# Altium footprint library WA-SMST.PcbLib: 54 footprints (part 2 of 4)
Each footprint in its own frame and in the unit in brackets; x right, y up, seen from the top. Pads: shape width x height; smd on the part's side, far side on the other; paste and mask are expansions set on the pad; w line width, h text height; cw(c..) or ccw(c..) is an arc to the next point about the centre after c.
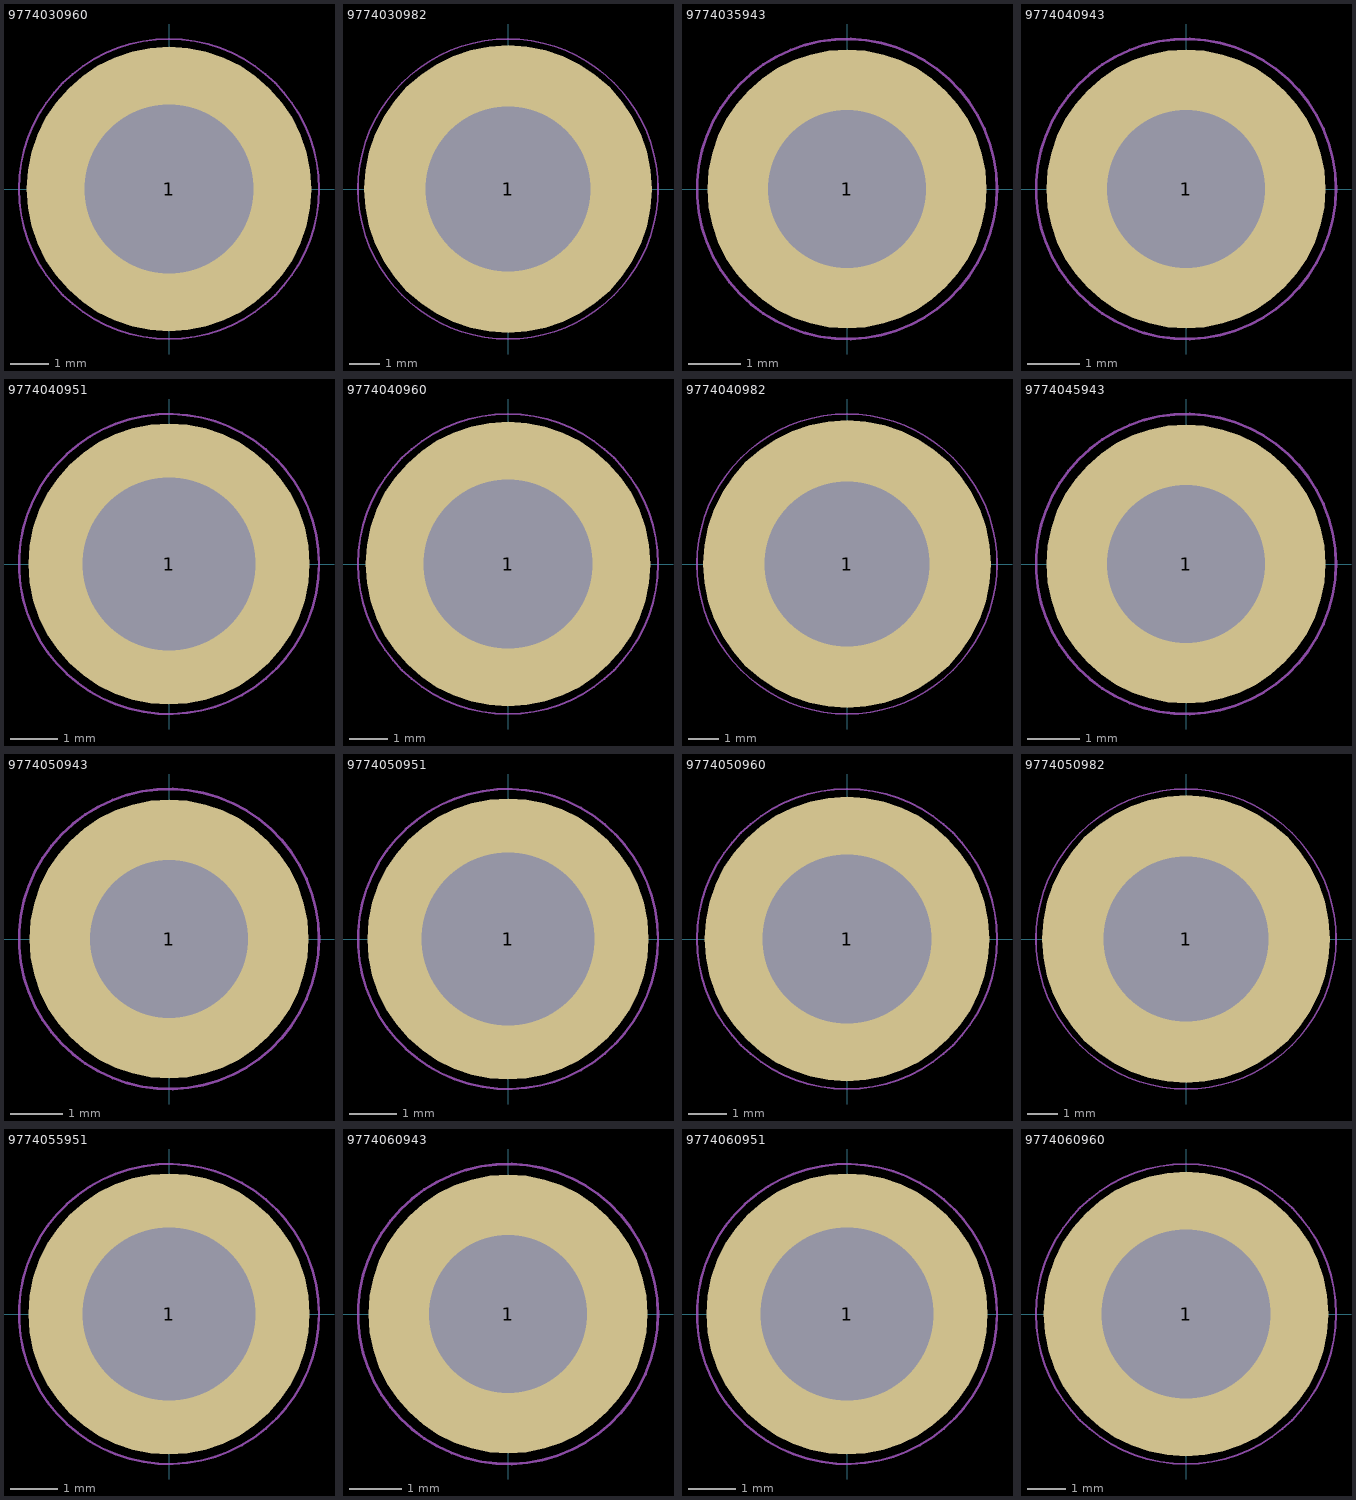
[diagram p1: the footprints below, top view; thin cyan lines are the x and y axes]

## 9774030960 [mm] "SMT Steel Spacer Internal hole diameter 3.3mm non stop, height 3mm"
height 3
pads (1):
  round 7.4 / inner round 0 / far side round 0 hole 4.4 unplated: 1(0,0)
Top Paste:
  region: 0.4,3.613 0.4,2.204 0.566,2.167 0.886,2.057 1.186,1.9 1.46,1.699 1.699,1.46 1.9,1.186 2.057,0.886 2.167,0.566 2.204,0.4 3.613,0.4 3.59,0.603 3.5,1.003 3.365,1.389 3.188,1.759 2.97,2.105 2.715,2.426 2.426,2.715 2.105,2.97 1.759,3.188 1.389,3.365 1.003,3.5 0.603,3.59
  region: 3.613,-0.4 2.204,-0.4 2.167,-0.566 2.057,-0.886 1.9,-1.186 1.699,-1.46 1.46,-1.699 1.186,-1.9 0.886,-2.057 0.566,-2.167 0.4,-2.204 0.4,-3.613 0.603,-3.59 1.003,-3.5 1.389,-3.365 1.759,-3.188 2.105,-2.97 2.426,-2.715 2.715,-2.426 2.97,-2.105 3.188,-1.759 3.365,-1.389 3.5,-1.003 3.59,-0.603
  region: -0.4,-3.613 -0.4,-2.204 -0.566,-2.167 -0.886,-2.057 -1.186,-1.9 -1.46,-1.699 -1.699,-1.46 -1.9,-1.186 -2.057,-0.886 -2.167,-0.566 -2.204,-0.4 -3.613,-0.4 -3.59,-0.603 -3.5,-1.003 -3.365,-1.389 -3.188,-1.759 -2.97,-2.105 -2.715,-2.426 -2.426,-2.715 -2.105,-2.97 -1.759,-3.188 -1.389,-3.365 -1.003,-3.5 -0.603,-3.59
  region: -3.613,0.4 -2.204,0.4 -2.167,0.566 -2.057,0.886 -1.9,1.186 -1.699,1.46 -1.46,1.699 -1.186,1.9 -0.886,2.057 -0.566,2.167 -0.4,2.204 -0.4,3.613 -0.603,3.59 -1.003,3.5 -1.389,3.365 -1.759,3.188 -2.105,2.97 -2.426,2.715 -2.715,2.426 -2.97,2.105 -3.188,1.759 -3.365,1.389 -3.5,1.003 -3.59,0.603
Top Designator:
  text ".Designator" at -7.498,-0.5 h1.5
Top Component Outline:
  circle w0.1: c0,0 r3
Top 3D Body:
  circle w0.1: c0,0 r3
Top Courtyard:
  circle w0.05: c0,0 r3.9
  lines w0.05: -0.5,0 0.5,0 ; 0,-0.5 0,0.5
3D body "9774030960.stp": height 3, standoff -1.4, extent -3,-3 3,3

## 9774030982 [mm] "SMT Steel Spacer Internal hole diameter 4.5mm non stop, height 3mm"
height 3
pads (1):
  round 9.4 / inner round 0 / far side round 0 hole 5.4 unplated: 1(0,0)
Top Paste:
  region: 0.4,4.618 0.669,4.594 1.199,4.485 1.712,4.316 2.202,4.087 2.662,3.804 3.086,3.469 3.469,3.086 3.804,2.662 4.087,2.202 4.316,1.712 4.485,1.199 4.594,0.669 4.618,0.4 2.711,0.4 2.67,0.615 2.538,1.032 2.342,1.422 2.086,1.777 1.777,2.086 1.422,2.342 1.032,2.538 0.615,2.67 0.4,2.711
  region: 4.618,-0.4 4.594,-0.669 4.485,-1.199 4.316,-1.712 4.087,-2.202 3.804,-2.662 3.469,-3.086 3.086,-3.469 2.662,-3.804 2.202,-4.087 1.712,-4.316 1.199,-4.485 0.669,-4.594 0.4,-4.618 0.4,-2.711 0.615,-2.67 1.032,-2.538 1.422,-2.342 1.777,-2.086 2.086,-1.777 2.342,-1.422 2.538,-1.032 2.67,-0.615 2.711,-0.4
  region: -0.4,-4.618 -0.669,-4.594 -1.199,-4.485 -1.712,-4.316 -2.202,-4.087 -2.662,-3.804 -3.086,-3.469 -3.469,-3.086 -3.804,-2.662 -4.087,-2.202 -4.316,-1.712 -4.485,-1.199 -4.594,-0.669 -4.618,-0.4 -2.711,-0.4 -2.67,-0.615 -2.538,-1.032 -2.342,-1.422 -2.086,-1.777 -1.777,-2.086 -1.422,-2.342 -1.032,-2.538 -0.615,-2.67 -0.4,-2.711
  region: -4.618,0.4 -4.594,0.669 -4.485,1.199 -4.316,1.712 -4.087,2.202 -3.804,2.662 -3.469,3.086 -3.086,3.469 -2.662,3.804 -2.202,4.087 -1.712,4.316 -1.199,4.485 -0.669,4.594 -0.4,4.618 -0.4,2.711 -0.615,2.67 -1.032,2.538 -1.422,2.342 -1.777,2.086 -2.086,1.777 -2.342,1.422 -2.538,1.032 -2.67,0.615 -2.711,0.4
Top Designator:
  text ".Designator" at -7.498,-0.5 h1.5
Top Component Outline:
  circle w0.1: c0,0 r4.1
Top 3D Body:
  circle w0.1: c0,0 r4.1
Top Courtyard:
  circle w0.05: c0,0 r4.9
  lines w0.05: -0.5,0 0.5,0 ; 0,-0.5 0,0.5
3D body "9774030982.stp": height 3, standoff -1.4, extent -4.1,-4.1 4.1,4.1

## 9774035943 [mm] "SMT Steel Spacer Internal hole diameter 2.25mm non stop, height 3.5mm"
height 3.5
pads (1):
  round 5.3 / inner round 0 / far side round 0 hole 3 unplated: 1(0,0)
Top Paste:
  region: 0.3,2.542 0.513,2.517 0.924,2.397 1.31,2.21 1.659,1.962 1.962,1.659 2.21,1.309 2.397,0.924 2.517,0.513 2.542,0.3 1.521,0.3 1.494,0.411 1.418,0.627 1.31,0.828 1.174,1.012 1.012,1.174 0.829,1.31 0.627,1.418 0.411,1.494 0.3,1.521
  region: 2.542,-0.3 2.517,-0.513 2.397,-0.924 2.21,-1.31 1.962,-1.659 1.659,-1.962 1.309,-2.21 0.924,-2.397 0.513,-2.517 0.3,-2.542 0.3,-1.521 0.411,-1.494 0.627,-1.418 0.828,-1.31 1.012,-1.174 1.174,-1.012 1.31,-0.829 1.418,-0.627 1.494,-0.411 1.521,-0.3
  region: -0.3,-2.542 -0.513,-2.517 -0.924,-2.397 -1.31,-2.21 -1.659,-1.962 -1.962,-1.659 -2.21,-1.309 -2.397,-0.924 -2.517,-0.513 -2.542,-0.3 -1.521,-0.3 -1.494,-0.411 -1.418,-0.627 -1.31,-0.828 -1.174,-1.012 -1.012,-1.174 -0.829,-1.31 -0.627,-1.418 -0.411,-1.494 -0.3,-1.521
  region: -2.542,0.3 -2.517,0.513 -2.397,0.924 -2.21,1.31 -1.962,1.659 -1.659,1.962 -1.309,2.21 -0.924,2.397 -0.513,2.517 -0.3,2.542 -0.3,1.521 -0.411,1.494 -0.627,1.418 -0.828,1.31 -1.012,1.174 -1.174,1.012 -1.31,0.829 -1.418,0.627 -1.494,0.411 -1.521,0.3
Top Designator:
  text ".Designator" at -7.498,-0.5 h1.5
Top Component Outline:
  circle w0.1: c0,0 r2.175
Top 3D Body:
  circle w0.1: c0,0 r2.175
Top Courtyard:
  circle w0.05: c0,0 r2.85
  lines w0.05: -0.5,0 0.5,0 ; 0,-0.5 0,0.5
3D body "9774035943.stp": height 3.5, standoff -1.4, extent -2.175,-2.172 2.175,2.172

## 9774040943 [mm] "SMT Steel Spacer Internal hole diameter 2.25mm non stop, height 4mm"
height 4
pads (1):
  round 5.3 / inner round 0 / far side round 0 hole 3 unplated: 1(0,0)
Top Paste:
  region: 0.3,2.542 0.513,2.517 0.924,2.397 1.31,2.21 1.659,1.962 1.962,1.659 2.21,1.309 2.397,0.924 2.517,0.513 2.542,0.3 1.521,0.3 1.494,0.411 1.418,0.627 1.31,0.828 1.174,1.012 1.012,1.174 0.829,1.31 0.627,1.418 0.411,1.494 0.3,1.521
  region: 2.542,-0.3 2.517,-0.513 2.397,-0.924 2.21,-1.31 1.962,-1.659 1.659,-1.962 1.309,-2.21 0.924,-2.397 0.513,-2.517 0.3,-2.542 0.3,-1.521 0.411,-1.494 0.627,-1.418 0.828,-1.31 1.012,-1.174 1.174,-1.012 1.31,-0.829 1.418,-0.627 1.494,-0.411 1.521,-0.3
  region: -0.3,-2.542 -0.513,-2.517 -0.924,-2.397 -1.31,-2.21 -1.659,-1.962 -1.962,-1.659 -2.21,-1.309 -2.397,-0.924 -2.517,-0.513 -2.542,-0.3 -1.521,-0.3 -1.494,-0.411 -1.418,-0.627 -1.31,-0.828 -1.174,-1.012 -1.012,-1.174 -0.829,-1.31 -0.627,-1.418 -0.411,-1.494 -0.3,-1.521
  region: -2.542,0.3 -2.517,0.513 -2.397,0.924 -2.21,1.31 -1.962,1.659 -1.659,1.962 -1.309,2.21 -0.924,2.397 -0.513,2.517 -0.3,2.542 -0.3,1.521 -0.411,1.494 -0.627,1.418 -0.828,1.31 -1.012,1.174 -1.174,1.012 -1.31,0.829 -1.418,0.627 -1.494,0.411 -1.521,0.3
Top Designator:
  text ".Designator" at -7.498,-0.5 h1.5
Top Component Outline:
  circle w0.1: c0,0 r2.175
Top 3D Body:
  circle w0.1: c0,0 r2.175
Top Courtyard:
  circle w0.05: c0,0 r2.85
  lines w0.05: -0.5,0 0.5,0 ; 0,-0.5 0,0.5
3D body "9774040943.stp": height 4, standoff -1.4, extent -2.175,-2.172 2.175,2.172

## 9774040951 [mm] "SMT Steel Spacer Internal hole diameter 2.7mm non stop, height 4mm"
height 4
pads (1):
  round 6 / inner round 0 / far side round 0 hole 3.7 unplated: 1(0,0)
Top Paste:
  region: 0.325,2.902 0.325,1.872 0.467,1.842 0.743,1.749 1.002,1.614 1.237,1.442 1.442,1.237 1.614,1.002 1.749,0.743 1.842,0.467 1.872,0.325 2.902,0.325 2.874,0.57 2.738,1.044 2.524,1.488 2.239,1.89 1.89,2.239 1.488,2.524 1.044,2.738 0.57,2.874
  region: 2.902,-0.325 1.872,-0.325 1.842,-0.467 1.749,-0.743 1.614,-1.002 1.442,-1.237 1.237,-1.442 1.002,-1.614 0.743,-1.749 0.467,-1.842 0.325,-1.872 0.325,-2.902 0.57,-2.874 1.044,-2.738 1.488,-2.524 1.89,-2.239 2.239,-1.89 2.524,-1.488 2.738,-1.044 2.874,-0.57
  region: -0.325,-2.902 -0.325,-1.872 -0.467,-1.842 -0.743,-1.749 -1.002,-1.614 -1.237,-1.442 -1.442,-1.237 -1.614,-1.002 -1.749,-0.743 -1.842,-0.467 -1.872,-0.325 -2.902,-0.325 -2.874,-0.57 -2.738,-1.044 -2.524,-1.488 -2.239,-1.89 -1.89,-2.239 -1.488,-2.524 -1.044,-2.738 -0.57,-2.874
  region: -2.902,0.325 -1.872,0.325 -1.842,0.467 -1.749,0.743 -1.614,1.002 -1.442,1.237 -1.237,1.442 -1.002,1.614 -0.743,1.749 -0.467,1.842 -0.325,1.872 -0.325,2.902 -0.57,2.874 -1.044,2.738 -1.488,2.524 -1.89,2.239 -2.239,1.89 -2.524,1.488 -2.738,1.044 -2.874,0.57
Top Designator:
  text ".Designator" at -7.498,-0.5 h1.5
Top Component Outline:
  circle w0.1: c0,0 r2.55
Top 3D Body:
  circle w0.1: c0,0 r2.55
Top Courtyard:
  circle w0.05: c0,0 r3.2
  lines w0.05: -0.5,0 0.5,0 ; 0,-0.5 0,0.5
3D body "9774040951.stp": height 4, standoff -1.4, extent -2.55,-2.547 2.55,2.547

## 9774040960 [mm] "SMT Steel Spacer Internal hole diameter 3.3mm non stop, height 4mm"
height 4
pads (1):
  round 7.4 / inner round 0 / far side round 0 hole 4.4 unplated: 1(0,0)
Top Paste:
  region: -3.613,0.4 -2.204,0.4 -2.167,0.566 -2.057,0.886 -1.9,1.186 -1.699,1.46 -1.46,1.699 -1.186,1.9 -0.886,2.057 -0.566,2.167 -0.4,2.204 -0.4,3.613 -0.603,3.59 -1.003,3.5 -1.389,3.365 -1.759,3.188 -2.105,2.97 -2.426,2.715 -2.715,2.426 -2.97,2.105 -3.188,1.759 -3.365,1.389 -3.5,1.003 -3.59,0.603
  region: -0.4,-3.613 -0.4,-2.204 -0.566,-2.167 -0.886,-2.057 -1.186,-1.9 -1.46,-1.699 -1.699,-1.46 -1.9,-1.186 -2.057,-0.886 -2.167,-0.566 -2.204,-0.4 -3.613,-0.4 -3.59,-0.603 -3.5,-1.003 -3.365,-1.389 -3.188,-1.759 -2.97,-2.105 -2.715,-2.426 -2.426,-2.715 -2.105,-2.97 -1.759,-3.188 -1.389,-3.365 -1.003,-3.5 -0.603,-3.59
  region: 3.613,-0.4 2.204,-0.4 2.167,-0.566 2.057,-0.886 1.9,-1.186 1.699,-1.46 1.46,-1.699 1.186,-1.9 0.886,-2.057 0.566,-2.167 0.4,-2.204 0.4,-3.613 0.603,-3.59 1.003,-3.5 1.389,-3.365 1.759,-3.188 2.105,-2.97 2.426,-2.715 2.715,-2.426 2.97,-2.105 3.188,-1.759 3.365,-1.389 3.5,-1.003 3.59,-0.603
  region: 0.4,3.613 0.4,2.204 0.566,2.167 0.886,2.057 1.186,1.9 1.46,1.699 1.699,1.46 1.9,1.186 2.057,0.886 2.167,0.566 2.204,0.4 3.613,0.4 3.59,0.603 3.5,1.003 3.365,1.389 3.188,1.759 2.97,2.105 2.715,2.426 2.426,2.715 2.105,2.97 1.759,3.188 1.389,3.365 1.003,3.5 0.603,3.59
Top Designator:
  text ".Designator" at -7.498,-0.5 h1.5
Top Component Outline:
  circle w0.1: c0,0 r3
Top 3D Body:
  circle w0.1: c0,0 r3
Top Courtyard:
  circle w0.05: c0,0 r3.9
  lines w0.05: -0.5,0 0.5,0 ; 0,-0.5 0,0.5
3D body "9774040960.stp": height 4, standoff -1.4, extent -3,-3 3,3

## 9774040982 [mm] "SMT Steel Spacer Internal hole diameter 4.5mm non stop, height 4mm"
height 4
pads (1):
  round 9.4 / inner round 0 / far side round 0 hole 5.4 unplated: 1(0,0)
Top Paste:
  region: 0.4,4.618 0.669,4.594 1.199,4.485 1.712,4.316 2.202,4.087 2.662,3.804 3.086,3.469 3.469,3.086 3.804,2.662 4.087,2.202 4.316,1.712 4.485,1.199 4.594,0.669 4.618,0.4 2.711,0.4 2.67,0.615 2.538,1.032 2.342,1.422 2.086,1.777 1.777,2.086 1.422,2.342 1.032,2.538 0.615,2.67 0.4,2.711
  region: 4.618,-0.4 4.594,-0.669 4.485,-1.199 4.316,-1.712 4.087,-2.202 3.804,-2.662 3.469,-3.086 3.086,-3.469 2.662,-3.804 2.202,-4.087 1.712,-4.316 1.199,-4.485 0.669,-4.594 0.4,-4.618 0.4,-2.711 0.615,-2.67 1.032,-2.538 1.422,-2.342 1.777,-2.086 2.086,-1.777 2.342,-1.422 2.538,-1.032 2.67,-0.615 2.711,-0.4
  region: -0.4,-4.618 -0.669,-4.594 -1.199,-4.485 -1.712,-4.316 -2.202,-4.087 -2.662,-3.804 -3.086,-3.469 -3.469,-3.086 -3.804,-2.662 -4.087,-2.202 -4.316,-1.712 -4.485,-1.199 -4.594,-0.669 -4.618,-0.4 -2.711,-0.4 -2.67,-0.615 -2.538,-1.032 -2.342,-1.422 -2.086,-1.777 -1.777,-2.086 -1.422,-2.342 -1.032,-2.538 -0.615,-2.67 -0.4,-2.711
  region: -4.618,0.4 -4.594,0.669 -4.485,1.199 -4.316,1.712 -4.087,2.202 -3.804,2.662 -3.469,3.086 -3.086,3.469 -2.662,3.804 -2.202,4.087 -1.712,4.316 -1.199,4.485 -0.669,4.594 -0.4,4.618 -0.4,2.711 -0.615,2.67 -1.032,2.538 -1.422,2.342 -1.777,2.086 -2.086,1.777 -2.342,1.422 -2.538,1.032 -2.67,0.615 -2.711,0.4
Top Designator:
  text ".Designator" at -7.498,-0.5 h1.5
Top Component Outline:
  circle w0.1: c0,0 r4.1
Top 3D Body:
  circle w0.1: c0,0 r4.1
Top Courtyard:
  circle w0.05: c0,0 r4.9
  lines w0.05: -0.5,0 0.5,0 ; 0,-0.5 0,0.5
3D body "9774040982.stp": height 4, standoff -1.4, extent -4.1,-4.1 4.1,4.1

## 9774045943 [mm] "SMT Steel Spacer Internal hole diameter 2.25mm non stop, height 4.5mm"
height 4.5
pads (1):
  round 5.3 / inner round 0 / far side round 0 hole 3 unplated: 1(0,0)
Top Paste:
  region: -2.542,0.3 -2.517,0.513 -2.397,0.924 -2.21,1.31 -1.962,1.659 -1.659,1.962 -1.309,2.21 -0.924,2.397 -0.513,2.517 -0.3,2.542 -0.3,1.521 -0.411,1.494 -0.627,1.418 -0.828,1.31 -1.012,1.174 -1.174,1.012 -1.31,0.829 -1.418,0.627 -1.494,0.411 -1.521,0.3
  region: -0.3,-2.542 -0.513,-2.517 -0.924,-2.397 -1.31,-2.21 -1.659,-1.962 -1.962,-1.659 -2.21,-1.309 -2.397,-0.924 -2.517,-0.513 -2.542,-0.3 -1.521,-0.3 -1.494,-0.411 -1.418,-0.627 -1.31,-0.828 -1.174,-1.012 -1.012,-1.174 -0.829,-1.31 -0.627,-1.418 -0.411,-1.494 -0.3,-1.521
  region: 2.542,-0.3 2.517,-0.513 2.397,-0.924 2.21,-1.31 1.962,-1.659 1.659,-1.962 1.309,-2.21 0.924,-2.397 0.513,-2.517 0.3,-2.542 0.3,-1.521 0.411,-1.494 0.627,-1.418 0.828,-1.31 1.012,-1.174 1.174,-1.012 1.31,-0.829 1.418,-0.627 1.494,-0.411 1.521,-0.3
  region: 0.3,2.542 0.513,2.517 0.924,2.397 1.31,2.21 1.659,1.962 1.962,1.659 2.21,1.309 2.397,0.924 2.517,0.513 2.542,0.3 1.521,0.3 1.494,0.411 1.418,0.627 1.31,0.828 1.174,1.012 1.012,1.174 0.829,1.31 0.627,1.418 0.411,1.494 0.3,1.521
Top Designator:
  text ".Designator" at -7.498,-0.5 h1.5
Top Component Outline:
  circle w0.1: c0,0 r2.175
Top 3D Body:
  circle w0.1: c0,0 r2.175
Top Courtyard:
  circle w0.05: c0,0 r2.85
  lines w0.05: -0.5,0 0.5,0 ; 0,-0.5 0,0.5
3D body "9774045943.stp": height 4.5, standoff -1.4, extent -2.175,-2.172 2.175,2.172

## 9774050943 [mm] "SMT Steel Spacer Internal hole diameter 2.25mm non stop, height 5mm"
height 5
pads (1):
  round 5.3 / inner round 0 / far side round 0 hole 3 unplated: 1(0,0)
Top Paste:
  region: 0.3,2.542 0.513,2.517 0.924,2.397 1.31,2.21 1.659,1.962 1.962,1.659 2.21,1.309 2.397,0.924 2.517,0.513 2.542,0.3 1.521,0.3 1.494,0.411 1.418,0.627 1.31,0.828 1.174,1.012 1.012,1.174 0.829,1.31 0.627,1.418 0.411,1.494 0.3,1.521
  region: 2.542,-0.3 2.517,-0.513 2.397,-0.924 2.21,-1.31 1.962,-1.659 1.659,-1.962 1.309,-2.21 0.924,-2.397 0.513,-2.517 0.3,-2.542 0.3,-1.521 0.411,-1.494 0.627,-1.418 0.828,-1.31 1.012,-1.174 1.174,-1.012 1.31,-0.829 1.418,-0.627 1.494,-0.411 1.521,-0.3
  region: -0.3,-2.542 -0.513,-2.517 -0.924,-2.397 -1.31,-2.21 -1.659,-1.962 -1.962,-1.659 -2.21,-1.309 -2.397,-0.924 -2.517,-0.513 -2.542,-0.3 -1.521,-0.3 -1.494,-0.411 -1.418,-0.627 -1.31,-0.828 -1.174,-1.012 -1.012,-1.174 -0.829,-1.31 -0.627,-1.418 -0.411,-1.494 -0.3,-1.521
  region: -2.542,0.3 -2.517,0.513 -2.397,0.924 -2.21,1.31 -1.962,1.659 -1.659,1.962 -1.309,2.21 -0.924,2.397 -0.513,2.517 -0.3,2.542 -0.3,1.521 -0.411,1.494 -0.627,1.418 -0.828,1.31 -1.012,1.174 -1.174,1.012 -1.31,0.829 -1.418,0.627 -1.494,0.411 -1.521,0.3
Top Designator:
  text ".Designator" at -7.498,-0.5 h1.5
Top Component Outline:
  circle w0.1: c0,0 r2.175
Top 3D Body:
  circle w0.1: c0,0 r2.175
Top Courtyard:
  circle w0.05: c0,0 r2.85
  lines w0.05: -0.5,0 0.5,0 ; 0,-0.5 0,0.5
3D body "9774050943.stp": height 5, standoff -1.4, extent -2.175,-2.172 2.175,2.172

## 9774050951 [mm] "SMT Steel Spacer Internal hole diameter 2.7mm non stop, height 5mm"
height 5
pads (1):
  round 6 / inner round 0 / far side round 0 hole 3.7 unplated: 1(0,0)
Top Paste:
  region: 0.325,2.902 0.325,1.872 0.467,1.842 0.743,1.749 1.002,1.614 1.237,1.442 1.442,1.237 1.614,1.002 1.749,0.743 1.842,0.467 1.872,0.325 2.902,0.325 2.874,0.57 2.738,1.044 2.524,1.488 2.239,1.89 1.89,2.239 1.488,2.524 1.044,2.738 0.57,2.874
  region: 2.902,-0.325 1.872,-0.325 1.842,-0.467 1.749,-0.743 1.614,-1.002 1.442,-1.237 1.237,-1.442 1.002,-1.614 0.743,-1.749 0.467,-1.842 0.325,-1.872 0.325,-2.902 0.57,-2.874 1.044,-2.738 1.488,-2.524 1.89,-2.239 2.239,-1.89 2.524,-1.488 2.738,-1.044 2.874,-0.57
  region: -0.325,-2.902 -0.325,-1.872 -0.467,-1.842 -0.743,-1.749 -1.002,-1.614 -1.237,-1.442 -1.442,-1.237 -1.614,-1.002 -1.749,-0.743 -1.842,-0.467 -1.872,-0.325 -2.902,-0.325 -2.874,-0.57 -2.738,-1.044 -2.524,-1.488 -2.239,-1.89 -1.89,-2.239 -1.488,-2.524 -1.044,-2.738 -0.57,-2.874
  region: -2.902,0.325 -1.872,0.325 -1.842,0.467 -1.749,0.743 -1.614,1.002 -1.442,1.237 -1.237,1.442 -1.002,1.614 -0.743,1.749 -0.467,1.842 -0.325,1.872 -0.325,2.902 -0.57,2.874 -1.044,2.738 -1.488,2.524 -1.89,2.239 -2.239,1.89 -2.524,1.488 -2.738,1.044 -2.874,0.57
Top Designator:
  text ".Designator" at -7.498,-0.5 h1.5
Top Component Outline:
  circle w0.1: c0,0 r2.55
Top 3D Body:
  circle w0.1: c0,0 r2.55
Top Courtyard:
  circle w0.05: c0,0 r3.2
  lines w0.05: -0.5,0 0.5,0 ; 0,-0.5 0,0.5
3D body "9774050951.stp": height 5, standoff -1.4, extent -2.55,-2.547 2.55,2.547

## 9774050960 [mm] "SMT Steel Spacer Internal hole diameter 3.3mm non stop, height 5mm"
height 5
pads (1):
  round 7.4 / inner round 0 / far side round 0 hole 4.4 unplated: 1(0,0)
Top Paste:
  region: -3.613,0.4 -2.204,0.4 -2.167,0.566 -2.057,0.886 -1.9,1.186 -1.699,1.46 -1.46,1.699 -1.186,1.9 -0.886,2.057 -0.566,2.167 -0.4,2.204 -0.4,3.613 -0.603,3.59 -1.003,3.5 -1.389,3.365 -1.759,3.188 -2.105,2.97 -2.426,2.715 -2.715,2.426 -2.97,2.105 -3.188,1.759 -3.365,1.389 -3.5,1.003 -3.59,0.603
  region: -0.4,-3.613 -0.4,-2.204 -0.566,-2.167 -0.886,-2.057 -1.186,-1.9 -1.46,-1.699 -1.699,-1.46 -1.9,-1.186 -2.057,-0.886 -2.167,-0.566 -2.204,-0.4 -3.613,-0.4 -3.59,-0.603 -3.5,-1.003 -3.365,-1.389 -3.188,-1.759 -2.97,-2.105 -2.715,-2.426 -2.426,-2.715 -2.105,-2.97 -1.759,-3.188 -1.389,-3.365 -1.003,-3.5 -0.603,-3.59
  region: 3.613,-0.4 2.204,-0.4 2.167,-0.566 2.057,-0.886 1.9,-1.186 1.699,-1.46 1.46,-1.699 1.186,-1.9 0.886,-2.057 0.566,-2.167 0.4,-2.204 0.4,-3.613 0.603,-3.59 1.003,-3.5 1.389,-3.365 1.759,-3.188 2.105,-2.97 2.426,-2.715 2.715,-2.426 2.97,-2.105 3.188,-1.759 3.365,-1.389 3.5,-1.003 3.59,-0.603
  region: 0.4,3.613 0.4,2.204 0.566,2.167 0.886,2.057 1.186,1.9 1.46,1.699 1.699,1.46 1.9,1.186 2.057,0.886 2.167,0.566 2.204,0.4 3.613,0.4 3.59,0.603 3.5,1.003 3.365,1.389 3.188,1.759 2.97,2.105 2.715,2.426 2.426,2.715 2.105,2.97 1.759,3.188 1.389,3.365 1.003,3.5 0.603,3.59
Top Designator:
  text ".Designator" at -7.498,-0.5 h1.5
Top Component Outline:
  circle w0.1: c0,0 r3
Top 3D Body:
  circle w0.1: c0,0 r3
Top Courtyard:
  circle w0.05: c0,0 r3.9
  lines w0.05: -0.5,0 0.5,0 ; 0,-0.5 0,0.5
3D body "9774050960.stp": height 5, standoff -1.4, extent -3,-3 3,3

## 9774050982 [mm] "SMT Steel Spacer Internal hole diameter 4.5mm non stop, height 5mm"
height 5
pads (1):
  round 9.4 / inner round 0 / far side round 0 hole 5.4 unplated: 1(0,0)
Top Paste:
  region: -4.618,0.4 -4.594,0.669 -4.485,1.199 -4.316,1.712 -4.087,2.202 -3.804,2.662 -3.469,3.086 -3.086,3.469 -2.662,3.804 -2.202,4.087 -1.712,4.316 -1.199,4.485 -0.669,4.594 -0.4,4.618 -0.4,2.711 -0.615,2.67 -1.032,2.538 -1.422,2.342 -1.777,2.086 -2.086,1.777 -2.342,1.422 -2.538,1.032 -2.67,0.615 -2.711,0.4
  region: -0.4,-4.618 -0.669,-4.594 -1.199,-4.485 -1.712,-4.316 -2.202,-4.087 -2.662,-3.804 -3.086,-3.469 -3.469,-3.086 -3.804,-2.662 -4.087,-2.202 -4.316,-1.712 -4.485,-1.199 -4.594,-0.669 -4.618,-0.4 -2.711,-0.4 -2.67,-0.615 -2.538,-1.032 -2.342,-1.422 -2.086,-1.777 -1.777,-2.086 -1.422,-2.342 -1.032,-2.538 -0.615,-2.67 -0.4,-2.711
  region: 4.618,-0.4 4.594,-0.669 4.485,-1.199 4.316,-1.712 4.087,-2.202 3.804,-2.662 3.469,-3.086 3.086,-3.469 2.662,-3.804 2.202,-4.087 1.712,-4.316 1.199,-4.485 0.669,-4.594 0.4,-4.618 0.4,-2.711 0.615,-2.67 1.032,-2.538 1.422,-2.342 1.777,-2.086 2.086,-1.777 2.342,-1.422 2.538,-1.032 2.67,-0.615 2.711,-0.4
  region: 0.4,4.618 0.669,4.594 1.199,4.485 1.712,4.316 2.202,4.087 2.662,3.804 3.086,3.469 3.469,3.086 3.804,2.662 4.087,2.202 4.316,1.712 4.485,1.199 4.594,0.669 4.618,0.4 2.711,0.4 2.67,0.615 2.538,1.032 2.342,1.422 2.086,1.777 1.777,2.086 1.422,2.342 1.032,2.538 0.615,2.67 0.4,2.711
Top Designator:
  text ".Designator" at -7.498,-0.5 h1.5
Top Component Outline:
  circle w0.1: c0,0 r4.1
Top 3D Body:
  circle w0.1: c0,0 r4.1
Top Courtyard:
  circle w0.05: c0,0 r4.9
  lines w0.05: -0.5,0 0.5,0 ; 0,-0.5 0,0.5
3D body "9774050982.stp": height 5, standoff -1.4, extent -4.1,-4.1 4.1,4.1

## 9774055951 [mm] "SMT Steel Spacer Internal hole diameter 2.7mm non stop, height 5.5mm"
height 5.5
pads (1):
  round 6 / inner round 0 / far side round 0 hole 3.7 unplated: 1(0,0)
Top Paste:
  region: -2.902,0.325 -1.872,0.325 -1.842,0.467 -1.749,0.743 -1.614,1.002 -1.442,1.237 -1.237,1.442 -1.002,1.614 -0.743,1.749 -0.467,1.842 -0.325,1.872 -0.325,2.902 -0.57,2.874 -1.044,2.738 -1.488,2.524 -1.89,2.239 -2.239,1.89 -2.524,1.488 -2.738,1.044 -2.874,0.57
  region: -0.325,-2.902 -0.325,-1.872 -0.467,-1.842 -0.743,-1.749 -1.002,-1.614 -1.237,-1.442 -1.442,-1.237 -1.614,-1.002 -1.749,-0.743 -1.842,-0.467 -1.872,-0.325 -2.902,-0.325 -2.874,-0.57 -2.738,-1.044 -2.524,-1.488 -2.239,-1.89 -1.89,-2.239 -1.488,-2.524 -1.044,-2.738 -0.57,-2.874
  region: 2.902,-0.325 1.872,-0.325 1.842,-0.467 1.749,-0.743 1.614,-1.002 1.442,-1.237 1.237,-1.442 1.002,-1.614 0.743,-1.749 0.467,-1.842 0.325,-1.872 0.325,-2.902 0.57,-2.874 1.044,-2.738 1.488,-2.524 1.89,-2.239 2.239,-1.89 2.524,-1.488 2.738,-1.044 2.874,-0.57
  region: 0.325,2.902 0.325,1.872 0.467,1.842 0.743,1.749 1.002,1.614 1.237,1.442 1.442,1.237 1.614,1.002 1.749,0.743 1.842,0.467 1.872,0.325 2.902,0.325 2.874,0.57 2.738,1.044 2.524,1.488 2.239,1.89 1.89,2.239 1.488,2.524 1.044,2.738 0.57,2.874
Top Designator:
  text ".Designator" at -7.498,-0.5 h1.5
Top Component Outline:
  circle w0.1: c0,0 r2.55
Top 3D Body:
  circle w0.1: c0,0 r2.55
Top Courtyard:
  circle w0.05: c0,0 r3.2
  lines w0.05: -0.5,0 0.5,0 ; 0,-0.5 0,0.5
3D body "9774055951.stp": height 5.5, standoff -1.4, extent -2.55,-2.547 2.55,2.547

## 9774060943 [mm] "SMT Steel Spacer Internal hole diameter 2.25mm non stop, height 6mm"
height 6
pads (1):
  round 5.3 / inner round 0 / far side round 0 hole 3 unplated: 1(0,0)
Top Paste:
  region: 0.3,2.542 0.513,2.517 0.924,2.397 1.31,2.21 1.659,1.962 1.962,1.659 2.21,1.309 2.397,0.924 2.517,0.513 2.542,0.3 1.521,0.3 1.494,0.411 1.418,0.627 1.31,0.828 1.174,1.012 1.012,1.174 0.829,1.31 0.627,1.418 0.411,1.494 0.3,1.521
  region: 2.542,-0.3 2.517,-0.513 2.397,-0.924 2.21,-1.31 1.962,-1.659 1.659,-1.962 1.309,-2.21 0.924,-2.397 0.513,-2.517 0.3,-2.542 0.3,-1.521 0.411,-1.494 0.627,-1.418 0.828,-1.31 1.012,-1.174 1.174,-1.012 1.31,-0.829 1.418,-0.627 1.494,-0.411 1.521,-0.3
  region: -0.3,-2.542 -0.513,-2.517 -0.924,-2.397 -1.31,-2.21 -1.659,-1.962 -1.962,-1.659 -2.21,-1.309 -2.397,-0.924 -2.517,-0.513 -2.542,-0.3 -1.521,-0.3 -1.494,-0.411 -1.418,-0.627 -1.31,-0.828 -1.174,-1.012 -1.012,-1.174 -0.829,-1.31 -0.627,-1.418 -0.411,-1.494 -0.3,-1.521
  region: -2.542,0.3 -2.517,0.513 -2.397,0.924 -2.21,1.31 -1.962,1.659 -1.659,1.962 -1.309,2.21 -0.924,2.397 -0.513,2.517 -0.3,2.542 -0.3,1.521 -0.411,1.494 -0.627,1.418 -0.828,1.31 -1.012,1.174 -1.174,1.012 -1.31,0.829 -1.418,0.627 -1.494,0.411 -1.521,0.3
Top Designator:
  text ".Designator" at -7.498,-0.5 h1.5
Top Component Outline:
  circle w0.1: c0,0 r2.175
Top 3D Body:
  circle w0.1: c0,0 r2.175
Top Courtyard:
  circle w0.05: c0,0 r2.85
  lines w0.05: -0.5,0 0.5,0 ; 0,-0.5 0,0.5
3D body "9774060943.stp": height 6, standoff -1.4, extent -2.175,-2.172 2.175,2.172

## 9774060951 [mm] "SMT Steel Spacer Internal hole diameter 2.7mm non stop, height 6mm"
height 6
pads (1):
  round 6 / inner round 0 / far side round 0 hole 3.7 unplated: 1(0,0)
Top Paste:
  region: 0.325,2.902 0.325,1.872 0.467,1.842 0.743,1.749 1.002,1.614 1.237,1.442 1.442,1.237 1.614,1.002 1.749,0.743 1.842,0.467 1.872,0.325 2.902,0.325 2.874,0.57 2.738,1.044 2.524,1.488 2.239,1.89 1.89,2.239 1.488,2.524 1.044,2.738 0.57,2.874
  region: 2.902,-0.325 1.872,-0.325 1.842,-0.467 1.749,-0.743 1.614,-1.002 1.442,-1.237 1.237,-1.442 1.002,-1.614 0.743,-1.749 0.467,-1.842 0.325,-1.872 0.325,-2.902 0.57,-2.874 1.044,-2.738 1.488,-2.524 1.89,-2.239 2.239,-1.89 2.524,-1.488 2.738,-1.044 2.874,-0.57
  region: -0.325,-2.902 -0.325,-1.872 -0.467,-1.842 -0.743,-1.749 -1.002,-1.614 -1.237,-1.442 -1.442,-1.237 -1.614,-1.002 -1.749,-0.743 -1.842,-0.467 -1.872,-0.325 -2.902,-0.325 -2.874,-0.57 -2.738,-1.044 -2.524,-1.488 -2.239,-1.89 -1.89,-2.239 -1.488,-2.524 -1.044,-2.738 -0.57,-2.874
  region: -2.902,0.325 -1.872,0.325 -1.842,0.467 -1.749,0.743 -1.614,1.002 -1.442,1.237 -1.237,1.442 -1.002,1.614 -0.743,1.749 -0.467,1.842 -0.325,1.872 -0.325,2.902 -0.57,2.874 -1.044,2.738 -1.488,2.524 -1.89,2.239 -2.239,1.89 -2.524,1.488 -2.738,1.044 -2.874,0.57
Top Designator:
  text ".Designator" at -7.498,-0.5 h1.5
Top Component Outline:
  circle w0.1: c0,0 r2.55
Top 3D Body:
  circle w0.1: c0,0 r2.55
Top Courtyard:
  circle w0.05: c0,0 r3.2
  lines w0.05: -0.5,0 0.5,0 ; 0,-0.5 0,0.5
3D body "9774060951.stp": height 6, standoff -1.4, extent -2.55,-2.547 2.55,2.547

## 9774060960 [mm] "SMT Steel Spacer Internal hole diameter 3.3mm non stop, height 6mm"
height 6
pads (1):
  round 7.4 / inner round 0 / far side round 0 hole 4.4 unplated: 1(0,0)
Top Paste:
  region: -3.613,0.4 -2.204,0.4 -2.167,0.566 -2.057,0.886 -1.9,1.186 -1.699,1.46 -1.46,1.699 -1.186,1.9 -0.886,2.057 -0.566,2.167 -0.4,2.204 -0.4,3.613 -0.603,3.59 -1.003,3.5 -1.389,3.365 -1.759,3.188 -2.105,2.97 -2.426,2.715 -2.715,2.426 -2.97,2.105 -3.188,1.759 -3.365,1.389 -3.5,1.003 -3.59,0.603
  region: -0.4,-3.613 -0.4,-2.204 -0.566,-2.167 -0.886,-2.057 -1.186,-1.9 -1.46,-1.699 -1.699,-1.46 -1.9,-1.186 -2.057,-0.886 -2.167,-0.566 -2.204,-0.4 -3.613,-0.4 -3.59,-0.603 -3.5,-1.003 -3.365,-1.389 -3.188,-1.759 -2.97,-2.105 -2.715,-2.426 -2.426,-2.715 -2.105,-2.97 -1.759,-3.188 -1.389,-3.365 -1.003,-3.5 -0.603,-3.59
  region: 3.613,-0.4 2.204,-0.4 2.167,-0.566 2.057,-0.886 1.9,-1.186 1.699,-1.46 1.46,-1.699 1.186,-1.9 0.886,-2.057 0.566,-2.167 0.4,-2.204 0.4,-3.613 0.603,-3.59 1.003,-3.5 1.389,-3.365 1.759,-3.188 2.105,-2.97 2.426,-2.715 2.715,-2.426 2.97,-2.105 3.188,-1.759 3.365,-1.389 3.5,-1.003 3.59,-0.603
  region: 0.4,3.613 0.4,2.204 0.566,2.167 0.886,2.057 1.186,1.9 1.46,1.699 1.699,1.46 1.9,1.186 2.057,0.886 2.167,0.566 2.204,0.4 3.613,0.4 3.59,0.603 3.5,1.003 3.365,1.389 3.188,1.759 2.97,2.105 2.715,2.426 2.426,2.715 2.105,2.97 1.759,3.188 1.389,3.365 1.003,3.5 0.603,3.59
Top Designator:
  text ".Designator" at -7.498,-0.5 h1.5
Top Component Outline:
  circle w0.1: c0,0 r3
Top 3D Body:
  circle w0.1: c0,0 r3
Top Courtyard:
  circle w0.05: c0,0 r3.9
  lines w0.05: -0.5,0 0.5,0 ; 0,-0.5 0,0.5
3D body "9774060960.stp": height 6, standoff -1.4, extent -3,-3 3,3